# Altium schematic symbol library PI3HDX414FCEEX.Schlib: 1 symbol
Pins are listed as number, name and electrical type; pins without a type are passive.

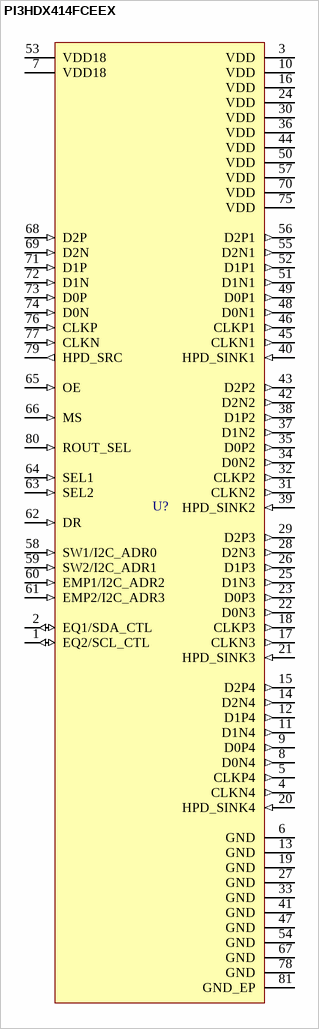
[diagram p0: symbol PI3HDX414FCEEX]

## PI3HDX414FCEEX
designator U?
HDMI 1.4b 1:4 Splitter for 3.4 Gbps Data Rate with Equalization & Pre-emphasis
pins: 1 EQ2/SCL_CTL (io), 2 EQ1/SDA_CTL (io), 3 VDD (power), 4 CLKN4 (out), 5 CLKP4 (out), 6 GND (power), 7 VDD18 (power), 8 D0N4 (out), 9 D0P4 (out), 10 VDD (power), 11 D1N4 (out), 12 D1P4 (out), 13 GND (power), 14 D2N4 (out), 15 D2P4 (out), 16 VDD (power), 17 CLKN3 (out), 18 CLKP3 (out), 19 GND (power), 20 HPD_SINK4 (in), 21 HPD_SINK3 (in), 22 D0N3 (out), 23 D0P3 (out), 24 VDD (power), 25 D1N3 (out), 26 D1P3 (out), 27 GND (power), 28 D2N3 (out), 29 D2P3 (out), 30 VDD (power), 31 CLKN2 (out), 32 CLKP2 (out), 33 GND (power), 34 D0N2 (out), 35 D0P2 (out), 36 VDD (power), 37 D1N2 (out), 38 D1P2 (out), 39 HPD_SINK2 (in), 40 HPD_SINK1 (in), 41 GND (power), 42 D2N2 (out), 43 D2P2 (out), 44 VDD (power), 45 CLKN1 (out), 46 CLKP1 (out), 47 GND (power), 48 D0N1 (out), 49 D0P1 (out), 50 VDD (power), 51 D1N1 (out), 52 D1P1 (out), 53 VDD18 (power), 54 GND (power), 55 D2N1 (out), 56 D2P1 (out), 57 VDD (power), 58 SW1/I2C_ADR0 (in), 59 SW2/I2C_ADR1 (in), 60 EMP1/I2C_ADR2 (in), 61 EMP2/I2C_ADR3 (in), 62 DR (in), 63 SEL2 (in), 64 SEL1 (in), 65 OE (in), 66 MS (in), 67 GND (power), 68 D2P (in), 69 D2N (in), 70 VDD (power), 71 D1P (in), 72 D1N (in), 73 D0P (in), 74 D0N (in), 75 VDD (power), 76 CLKP (in), 77 CLKN (in), 78 GND (power), 79 HPD_SRC (out), 80 ROUT_SEL (in), 81 GND_EP (power)